# Altium schematic symbol library Resistors.SchLib: 17 symbols
Pins are listed as number, name and electrical type; pins without a type are passive.

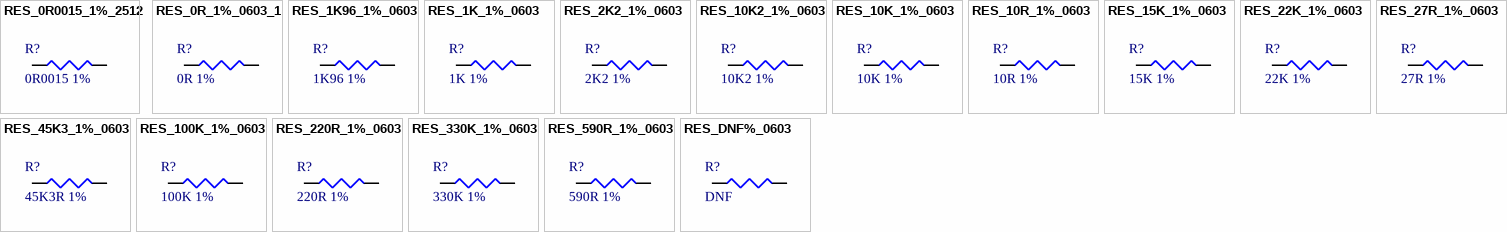
[diagram p0: symbols RES_0R0015_1%_2512 to RES_DNF%_0603]

## RES_0R0015_1%_2512
designator R?, comment 0R0015 1%
Resistor, 0R0015, 1%, 2512; Manufacturer: Riedon; Manufacturer P/N: CSR2512C0R0015F
footprint 2512
pins: 1, 2

## RES_0R_1%_0603_1
designator R?, comment 0R 1%
Resistor, 0R, 1%, 0603; Manufacturer: Bourns Inc; Manufacturer P/N: CR0603-J/-000ELF
footprint 0603
pins: 1, 2

## RES_1K96_1%_0603
designator R?, comment 1K96 1%
Resistor, 1K96, 1%, 0603; Manufacturer: Yageo; Manufacturer P/N: RC0603FR-071K96L
footprint 0603
pins: 1, 2

## RES_1K_1%_0603
designator R?, comment 1K 1%
Resistor, 1K, 1%, 0603; Manufacturer: Bourns Inc; Manufacturer P/N: CR0603-FX-1001ELF
footprint 0603
pins: 1, 2

## RES_2K2_1%_0603
designator R?, comment 2K2 1%
Resistor, 2K2, 1%, 0603; Manufacturer: Bourns Inc; Manufacturer P/N: CR0603-FX-2201ELF
footprint 0603
pins: 1, 2

## RES_10K2_1%_0603
designator R?, comment 10K2 1%
Resistor, 10K2, 1%, 0603; Manufacturer: Yageo; Manufacturer P/N: RC0603FR-0710K2L
footprint 0603
pins: 1, 2

## RES_10K_1%_0603
designator R?, comment 10K 1%
Resistor, 10K, 1%, 0603; Manufacturer: Bourns Inc; Manufacturer P/N: CR0603-FX-1002HLF
footprint 0603
pins: 1, 2

## RES_10R_1%_0603
designator R?, comment 10R 1%
Resistor, 10R, 1%, 0603; Manufacturer: Bourns Inc; Manufacturer P/N: CR0603-FX-10R0ELF
footprint 0603
pins: 1, 2

## RES_15K_1%_0603
designator R?, comment 15K 1%
Resistor, 15K, 1%, 0603; Manufacturer: Bourns Inc; Manufacturer P/N: CR0603-FX-1502ELF
footprint 0603
pins: 1, 2

## RES_22K_1%_0603
designator R?, comment 22K 1%
Resistor, 22K, 1%, 0603; Manufacturer: Bourns Inc; Manufacturer P/N: CR0603-FX-2202ELF
footprint 0603
pins: 1, 2

## RES_27R_1%_0603
designator R?, comment 27R 1%
Resistor, 27R, 1%, 0603; Manufacturer: Bourns Inc; Manufacturer P/N: CR0603-FX-27R0ELF
footprint 0603
pins: 1, 2

## RES_45K3_1%_0603
designator R?, comment 45K3R 1%
Resistor, 45K3, 1%, 0603; Manufacturer: Bourns Inc; Manufacturer P/N: CR0603-FX-4532ELF
footprint 0603
pins: 1, 2

## RES_100K_1%_0603
designator R?, comment 100K 1%
Resistor, 100K, 1%, 0603; Manufacturer: Bourns Inc; Manufacturer P/N: CRT0603-BY-1003ELF
footprint 0603
pins: 1, 2

## RES_220R_1%_0603
designator R?, comment 220R 1%
Resistor, 220R, 1%, 0603; Manufacturer: Bourns Inc; Manufacturer P/N: CR0603-FX-2200ELF
footprint 0603
pins: 1, 2

## RES_330K_1%_0603
designator R?, comment 330K 1%
Resistor, 330K, 1%, 0603; Manufacturer: Bourns Inc; Manufacturer P/N: CR0603-FX-3303ELF
footprint 0603
pins: 1, 2

## RES_590R_1%_0603
designator R?, comment 590R 1%
Resistor, 590R, 1%, 0603; Manufacturer: Bourns Inc; Manufacturer P/N: CR0603-FX-5900ELF
footprint 0603
pins: 1, 2

## RES_DNF%_0603
designator R?, comment DNF
Resistor, DNF%, 0603; Manufacturer P/N: N/A
footprint 0603
pins: 1, 2